# EAGLE library part MAX4701 (library rover12)
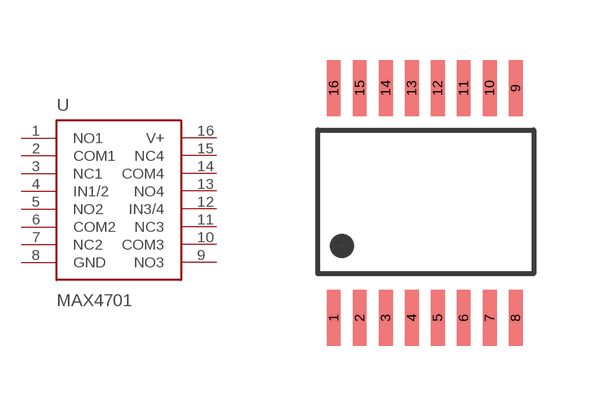
[diagram p3: symbol with the pads of TSSOP-16; footprint TSSOP-16]

Designator prefix U

## MAX4701  [TSSOP-16]
1  NO1
2  COM1
3  NC1
4  IN1/2
5  NO2
6  COM2
7  NC2
8  GND  pwr
9  NO3
10  COM3
11  NC3
12  IN3/4
13  NO4
14  COM4
15  NC4
16  V+  pwr

## Footprint TSSOP-16 (pad centres in mm)
smd 0.35 x 1.4: 1 0,0; 2 0.65,0; 3 1.3,0; 4 1.95,0; 5 2.6,0; 6 3.25,0; 7 3.9,0; 8 4.55,0; 9 4.55,5.75; 10 3.9,5.75; 11 3.25,5.75; 12 2.6,5.75; 13 1.95,5.75; 14 1.3,5.75; 15 0.65,5.75; 16 0,5.75